# Altium schematic symbol library STM32L431CBT6.SchLib: 1 symbol
Pins are listed as number, name and electrical type; pins without a type are passive.

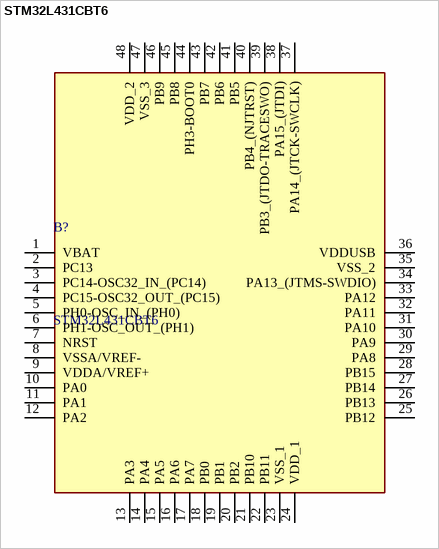
[diagram p0: symbol STM32L431CBT6]

## STM32L431CBT6
designator B?
STMicroelectronics STM32L431CBT6, 32bit ARM Cortex M4 MCU, 80MHz, 256 kB Flash, 48-Pin LQFP; Geometry.Height: 1.6mm; Mouser Part Number: 511-STM32L431CBT6; Mouser Price/Stock: https://www.mouser.co.uk/ProductDetail/STMicroelectronics/STM32L431CBT6?qs=U58vgkJzipQlQfAJeHTS0w%3D%3D; Manufacturer_Name: STMicroelectronics; Manufacturer_Part_Number: STM32L431CBT6; Datasheet Link: https://www.st.com/resource/en/datasheet/stm32l431cb.pdf
footprint QFP50P900X900X160-48N
pins: 1 VBAT (power), 2 PC13, 3 PC14-OSC32_IN_(PC14), 4 PC15-OSC32_OUT_(PC15), 5 PH0-OSC_IN_(PH0), 6 PH1-OSC_OUT_(PH1), 7 NRST, 8 VSSA/VREF- (power), 9 VDDA/VREF+ (power), 10 PA0, 11 PA1, 12 PA2, 13 PA3, 14 PA4, 15 PA5, 16 PA6, 17 PA7, 18 PB0, 19 PB1, 20 PB2, 21 PB10, 22 PB11, 23 VSS_1 (power), 24 VDD_1 (power), 25 PB12, 26 PB13, 27 PB14, 28 PB15, 29 PA8, 30 PA9, 31 PA10, 32 PA11, 33 PA12, 34 PA13_(JTMS-SWDIO), 35 VSS_2 (power), 36 VDDUSB (power), 37 PA14_(JTCK-SWCLK), 38 PA15_(JTDI), 39 PB3_(JTDO-TRACESWO), 40 PB4_(NJTRST), 41 PB5, 42 PB6, 43 PB7, 44 PH3-BOOT0, 45 PB8, 46 PB9, 47 VSS_3 (power), 48 VDD_2 (power)